# Altium schematic symbol library TCXO.SchLib: 1 symbol
Pins are listed as number, name and electrical type; pins without a type are passive.

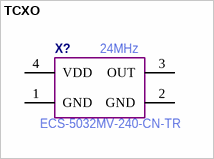
[diagram p0: symbol TCXO]

## TCXO
designator X?  Manufacturer Part Number: ECS-5032MV-240-CN-TR  Frequency: 24MHz  (hidden comment: *)
pins: 1 GND, 2 GND, 3 OUT, 4 VDD